# EAGLE library part TH15-1211 (library traco)
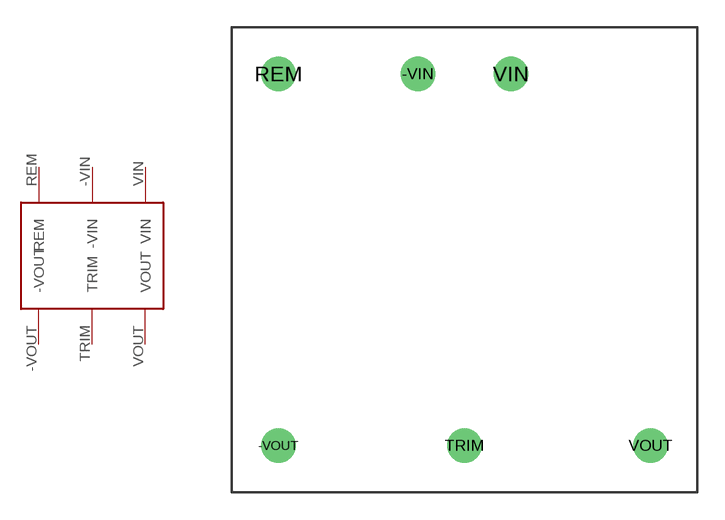
[diagram p3: symbol with the pads of TH15-1211; footprint TH15-1211]

Designator prefix -

## TH15-1211  [TH15-1211]
-VIN  -VIN
-VOUT  -VOUT
REM  REM
TRIM  TRIM
VIN  VIN
VOUT  VOUT

## Footprint TH15-1211 (pad centres in mm)
drill 1 pad 1.88: -VIN -2.54,10.16; -VOUT -10.16,-10.16; REM -10.16,10.16; TRIM 0,-10.16; VIN 2.54,10.16; VOUT 10.16,-10.16